# EAGLE library part USB-A-TH-FLAT-SIDE (library USB Connector)
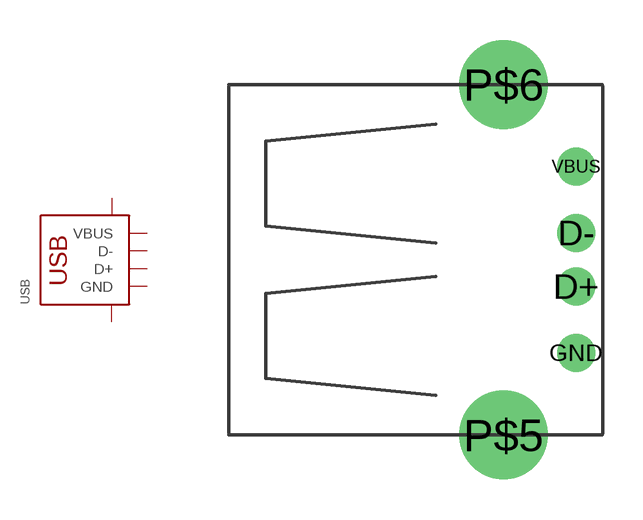
[diagram p5: symbol with the pads of USB-A-TH-FLAT-SIDE; footprint USB-A-TH-FLAT-SIDE]

Designator prefix USB

## USB-A-TH-FLAT-SIDE  [USB-A-TH-FLAT-SIDE]
D+  D+
D-  D-
GND  GND
P$5  SHIELD
P$6  SHIELD
VBUS  VBUS

## Footprint USB-A-TH-FLAT-SIDE (pad centres in mm)
USB Series A Hole Mounted
drill 0.914: D+ 2.718,-1.003; D- 2.718,1.003; GND 2.718,-3.493; VBUS 2.718,3.493
drill 2.311: P$5 0,-6.566; P$6 0,6.566